# Altium footprint library MOLEX_2171750001.PcbLib: 1 footprints
Each footprint in its own frame and in the unit in brackets; x right, y up, seen from the top. Pads: shape width x height; smd on the part's side, far side on the other; paste and mask are expansions set on the pad; w line width, h text height; cw(c..) or ccw(c..) is an arc to the next point about the centre after c.
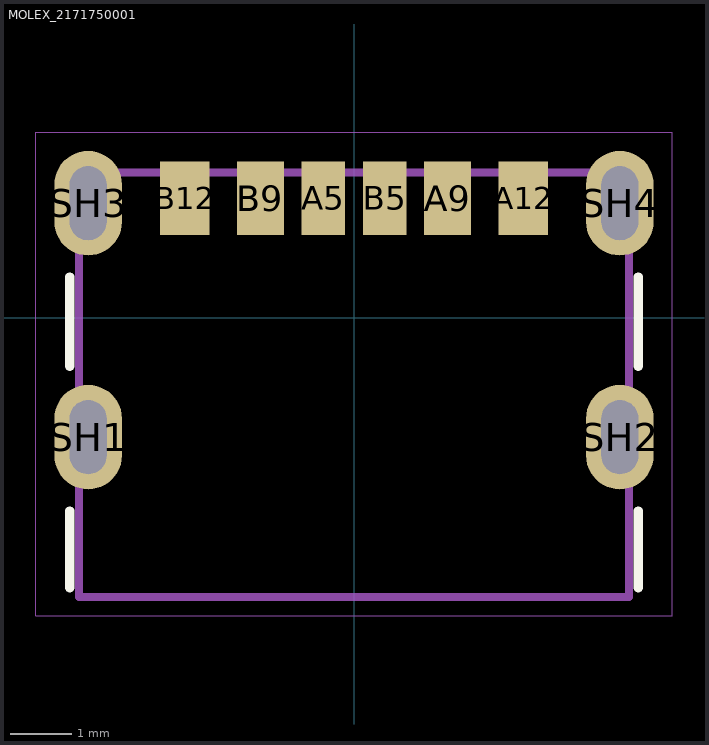
[diagram p0: the footprint, top view; thin cyan lines are the x and y axes]

## MOLEX_2171750001 [mm]
height 3.26
pads (10):
  rect 0.7x1.2 smd mask+0.064: A5(-0.5,1.94) B5(0.5,1.94)
  rect 0.76x1.2 smd mask+0.064: A9(1.52,1.94) B9(-1.52,1.94)
  rect 0.8x1.2 smd mask+0.064: A12(2.75,1.94) B12(-2.75,1.94)
  oval 1.1x1.7 hole 0.6 slot 1.2 at 90 deg mask+0.064: SH1(-4.32,-1.94) SH2(4.32,-1.94) SH3(-4.32,1.86) SH4(4.32,1.86)
Top Overlay:
  lines w0.15: -4.62,-4.39 -4.62,-3.14 ; -4.62,-0.79 -4.62,0.66 ; 4.62,-4.39 4.62,-3.14 ; 4.62,-0.79 4.62,0.66
Mechanical 13:
  lines w0.13: -4.47,-4.54 -4.47,2.36 4.47,2.36 4.47,-4.54 -4.47,-4.54
Mechanical 15:
  lines w0.01: -5.17,-4.84 5.17,-4.84 5.17,3.01 -5.17,3.01 -5.17,-4.84
3D body "2171750001--3DModel-STEP-56544.STEP": height 3.17, standoff -1.99, extent -4.47,-4.594 4.47,2.306